# Altium integrated library CRYSTAL_7_3728MHZ.IntLib: 1 symbol
Pins are listed as number, name and electrical type; pins without a type are passive.

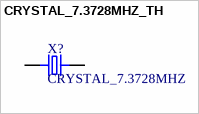
[diagram p0: symbol CRYSTAL_7.3728MHZ_TH]

## CRYSTAL_7.3728MHZ_TH
designator X?, comment CRYSTAL_7.3728MHZ
7.3728 MHz +-30ppm Crystal 20pF 80Ohms; Package: TH; MP: CRYSTAL_7.3728MHZ; Value: *; Availability: Unavailable; Price: None
pins: 1, 2